# EAGLE library part INA226AIDGSR (library INA226AIDGSR)
Check prices <https://pricing.snapeda.com/parts/INA226AIDGSR/Texas%20Instruments/view-part?ref=eda>
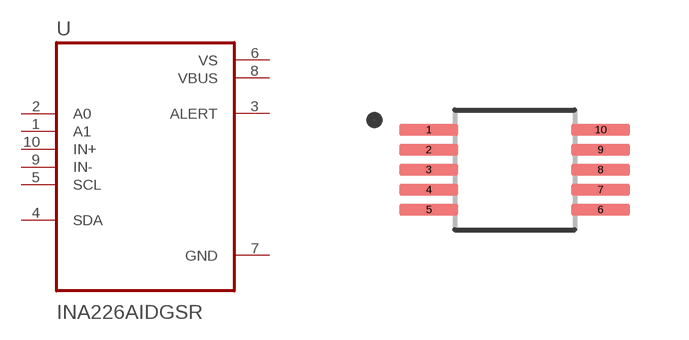
[diagram p0: symbol with the pads of SOP50P490X110-10N; footprint SOP50P490X110-10N]

Designator prefix U

## INA226AIDGSR (Availability: Good; Description: 36V, 16-bit, ultra-precise i2c output current/voltage/power monitor w/alert 10-VSSOP -40 to 125; MF: Texas Instruments; MP: INA226AIDGSR; Package: VSSOP-10 Texas Instruments; Price: None; Purchase-URL: https://pricing.snapeda.com/search/part/INA226AIDGSR/?ref=eda)  [SOP50P490X110-10N]
1  A1  in
2  A0  in
3  ALERT  out
4  SDA
5  SCL  in
6  VS  pwr
7  GND  pwr
8  VBUS  pwr
9  IN-  in
10  IN+  in

## Footprint SOP50P490X110-10N (pad centres in mm)
smd 1.47 x 0.28: 1 -2.15,1; 2 -2.15,0.5; 3 -2.15,0; 4 -2.15,-0.5; 5 -2.15,-1; 6 2.15,-1; 7 2.15,-0.5; 8 2.15,0; 9 2.15,0.5; 10 2.15,1